# Altium footprint library 2019-12-02_22-18-57.PcbLib: 1 footprints
Each footprint in its own frame and in the unit in brackets; x right, y up, seen from the top. Pads: shape width x height; smd on the part's side, far side on the other; paste and mask are expansions set on the pad; w line width, h text height; cw(c..) or ccw(c..) is an arc to the next point about the centre after c.
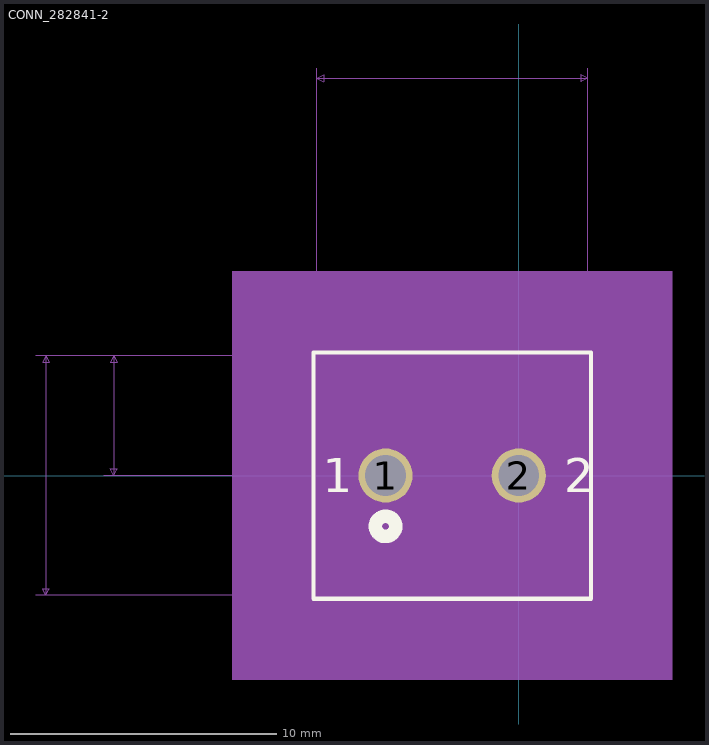
[diagram p0: the footprint, top view; thin cyan lines are the x and y axes]

## CONN_282841-2 [mil]
pads (2):
  round 80 hole 60: 1(-196.85,0) 2(0,0)
Top Overlay:
  lines w6: -303.43,-182 106.57,-182 106.57,182 -303.43,182 -303.43,-182
  lines w20: -198.4,-60.08 ccw(c-196.85,-75) -181.85,-75 ccw(c-196.85,-75) -195.3,-60.08
  text "1" at -289.35,-25 h50
  text "1" at -289.35,-25 h50
  text "2" at 67.5,-25 h50
  text "2" at 67.5,-25 h50
Bottom Overlay:
  circle w20: c-196.85,-75 r15
  text "1" at -264.35,-25 h50
  text "1" at -264.35,-25 h50
  text "2" at 92.5,-25 h50
  text "2" at 92.5,-25 h50
Mechanical 5:
  region: -423.43,302 226.57,302 226.57,-302 -423.43,-302
Mechanical 7:
  lines w1: -713.43,-177 -298.43,-177 ; -713.43,177 -298.43,177 -613.43,177 ; -613.43,0 -98.43,0 ; -298.43,187 -298.43,602 ; -196.85,302 -196.85,0 ; 0,0 0,302 ; 101.57,187 101.57,602 ; 201.57,-50 201.57,0 ; 201.57,50 201.57,0 ; -698.43,-177 -698.43,177 ; -698.43,-177 -703.43,-167 -693.43,-167 -698.43,-177 ; -698.43,177 -703.43,167 -693.43,167 -698.43,177 ; -598.43,0 -598.43,177 ; -598.43,0 -603.43,10 -593.43,10 -598.43,0 ; -598.43,177 -603.43,167 -593.43,167 -598.43,177 ; -298.43,587 101.57,587 ; -298.43,587 -288.43,592 -288.43,582 -298.43,587 ; -196.85,0 216.57,0 -196.85,0 ; -196.85,287 0,287 ; -196.85,287 -186.85,292 -186.85,282 -196.85,287 ; 0,287 -10,292 -10,282 0,287 ; 101.57,587 91.57,592 91.57,582 101.57,587 ; 201.57,0 196.57,10 206.57,10 201.57,0 ; 201.57,0 196.57,-10 206.57,-10 201.57,0
  text "Default Padstyle: c203h152" at -423.43,-337 h50
  text "1st Mtg Padstyle: c203h152" at -423.43,-412 h50
  text "2nd Mtg Padstyle: c178h178" at -423.43,-487 h50
  text "3rd Mtg Padstyle: c178h178" at -423.43,-562 h50
  text "Left Mtg Padstyle: c152h76" at -423.43,-637 h50
  text "Right Mtg Padstyle: c152h76" at -435.93,-712 h50
  text "Alt Padstyle 1: b152_229h76" at -435.93,-787 h50
  text "Alt Padstyle 2: b229_152h76" at -435.93,-862 h50
  text "0.197in/5mm" at -167.18,307 h25
  text "0.4in/10.16mm" at -179.68,607 h25
  text "0in/0mm" at 221.57,-12.5 h25
  text "0.177in/4.496mm" at -805.93,76 h25
  text "0.354in/8.992mm" at -905.93,-12.5 h25
Mechanical 13:
  circle w20: c-196.85,-75 r15
  lines w1: -298.43,-177 101.57,-177 101.57,177 -298.43,177 -298.43,-177
  text "1" at -289.35,-25 h50
  text "1" at -289.35,-25 h50
  text "2" at 67.5,-25 h50
  text "2" at 67.5,-25 h50
Mechanical 15:
  region: 111.57,187 -308.43,187 -308.43,-187 111.57,-187
  lines w6: -308.43,-187 -308.43,187 111.57,187 111.57,-187 -308.43,-187
3D body: height 10, standoff 0, extent 0,0 10,10